# Altium schematic symbol library RES 110.0 1_8W - 1%.Schlib: 1 symbol
Pins are listed as number, name and electrical type; pins without a type are passive.

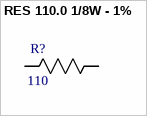
[diagram p0: symbol RES 110.0 1/8W - 1%]

## RES 110.0 1/8W - 1%
designator R?, comment 110
RES SMD 110 OHM 1% 1/8W 0805; Power (Watts): 0.125W; Package: 0805; Value: 110; Tolerance: 1%
footprint 0805
pins: 1 R1, 2 R2